# EAGLE library part MEC2-20-01-L-TH1-NP (library WFR2020)
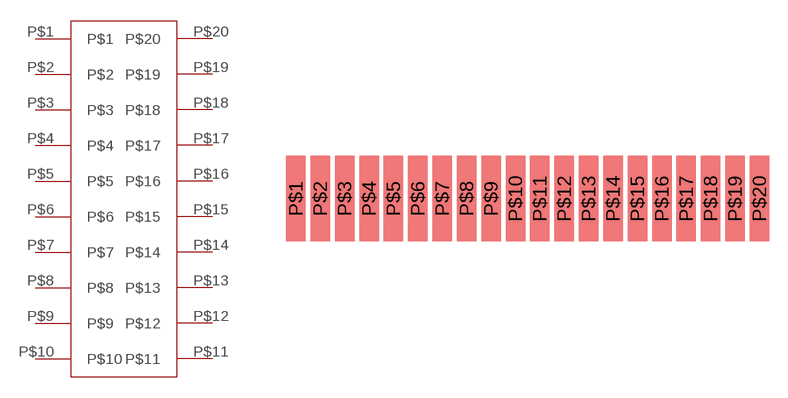
[diagram p11: symbol with the pads of MEC2-20-01-L-TH1-NP; footprint MEC2-20-01-L-TH1-NP]

Designator prefix -

## MEC2-20-01-L-TH1-NP  [MEC2-20-01-L-TH1-NP]
P$1  P$1
P$2  P$2
P$3  P$3
P$4  P$4
P$5  P$5
P$6  P$6
P$7  P$7
P$8  P$8
P$9  P$9
P$10  P$10
P$11  P$11
P$12  P$12
P$13  P$13
P$14  P$14
P$15  P$15
P$16  P$16
P$17  P$17
P$18  P$18
P$19  P$19
P$20  P$20

## Footprint MEC2-20-01-L-TH1-NP (pad centres in mm)
smd 1.6 x 7: P$1 0,0; P$2 2,0; P$3 4,0; P$4 6,0; P$5 8,0; P$6 10,0; P$7 12,0; P$8 14,0; P$9 16,0; P$10 18,0; P$11 20,0; P$12 22,0; P$13 24,0; P$14 26,0; P$15 28,0; P$16 30,0; P$17 32,0; P$18 34,0; P$19 36,0; P$20 38,0